# Altium footprint library 2020-03-27_15-51-18.PcbLib: 3 footprints
Each footprint in its own frame and in the unit in brackets; x right, y up, seen from the top. Pads: shape width x height; smd on the part's side, far side on the other; paste and mask are expansions set on the pad; w line width, h text height; cw(c..) or ccw(c..) is an arc to the next point about the centre after c.
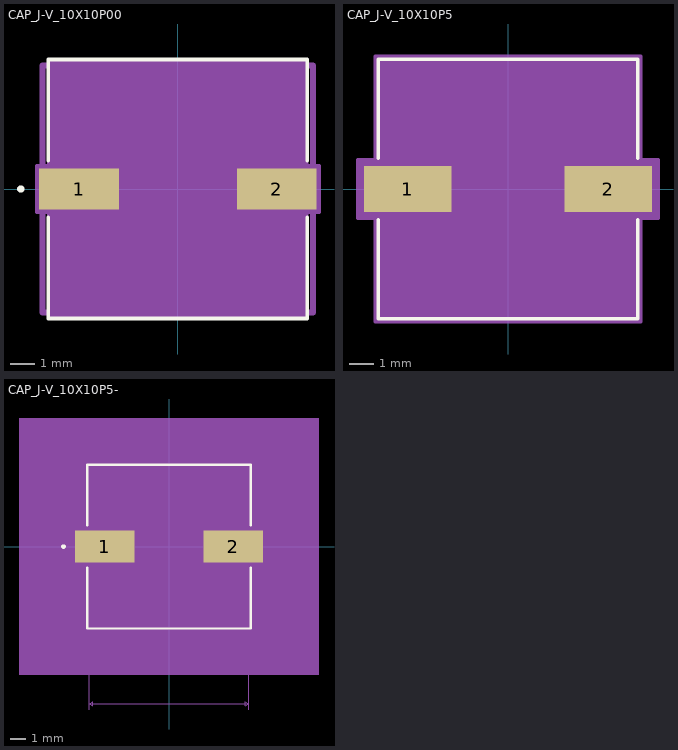
[diagram p0: the footprints below, top view; thin cyan lines are the x and y axes]

## CAP_J-V_10X10P00 [mil]
pads (2):
  rect 130x67 smd paste+0 mask+0: 1(-161.5,0) 2(161.5,0)
Top Overlay:
  circle w6: c-256.5,0 r3
  lines w6: -211.5,-46.6 -211.5,-211.5 211.5,-211.5 211.5,-46.6 ; -211.5,46.6 -211.5,211.5 211.5,211.5 211.5,46.6
Mechanical 1:
  lines w10: -221,-202 -221,202 221,202 221,201 221,-202 -221,-202
Mechanical 13:
  circle w0: c-186.5,0 r3
  lines w1: -206.5,-103.25 -103.25,-206.5 ; -206.5,103.25 -103.25,206.5 ; -206.5,-206.5 206.5,-206.5 206.5,206.5 -206.5,206.5 -206.5,-206.5
Mechanical 15:
  region: -210.5,-37.5 -230.5,-37.5 -230.5,37.5 -210.5,37.5 -210.5,210.5 210.5,210.5 210.5,37.5 230.5,37.5 230.5,-37.5 210.5,-37.5 210.5,-210.5 -210.5,-210.5
  lines w6: -230.5,-37.5 -230.5,37.5 -210.5,37.5 -210.5,210.5 210.5,210.5 210.5,37.5 230.5,37.5 230.5,-37.5 210.5,-37.5 210.5,-210.5 -210.5,-210.5 -210.5,-37.5 -230.5,-37.5
3D body "User Library-10x10_5.SLDPRT": height 425.2, standoff 0, extent -222.44,-202.75 222.44,202.76
3D body: height 10, standoff 0, extent 0,0 10,10

## CAP_J-V_10X10P5 [mil]
pads (2):
  rect 142x75 smd paste+0 mask+0: 1(-163.5,0) 2(163.5,0)
Top Overlay:
  lines w6: -211.5,-50.6 -211.5,-211.5 211.5,-211.5 211.5,-50.6 ; -211.5,50.6 -211.5,211.5 211.5,211.5 211.5,50.6
Mechanical 13:
  lines w1: -206.5,-103.25 -103.25,-206.5 ; -206.5,103.25 -103.25,206.5 ; -206.5,-206.5 -206.5,206.5 206.5,206.5 206.5,-206.5 -206.5,-206.5
Mechanical 15:
  region: -216.5,-47.5 -244.5,-47.5 -244.5,47.5 -216.5,47.5 -216.5,216.5 216.5,216.5 216.5,47.5 244.5,47.5 244.5,-47.5 216.5,-47.5 216.5,-216.5 -216.5,-216.5
  lines w6: -244.5,-47.5 -216.5,-47.5 -216.5,-216.5 216.5,-216.5 216.5,-47.5 244.5,-47.5 244.5,47.5 216.5,47.5 216.5,216.5 -216.5,216.5 -216.5,47.5 -244.5,47.5 -244.5,-47.5
3D body: height 10, standoff 0, extent 0,0 10,10
3D body "User Library-10x10_5.SLDPRT": height 425.2, standoff 0, extent -202.75,-222.44 202.76,222.45

## CAP_J-V_10X10P5- [mil]
pads (2):
  rect 154x83 smd paste+0 mask+0: 1(-165.5,0) 2(165.5,0)
Top Overlay:
  circle w6: c-272.5,0 r3
  lines w6: -211.5,-54.6 -211.5,-211.5 211.5,-211.5 211.5,-54.6 ; -211.5,54.6 -211.5,211.5 211.5,211.5 211.5,54.6
Mechanical 5:
  region: 387.5,-331.5 -387.5,-331.5 -387.5,331.5 387.5,331.5
Mechanical 7:
  lines w1: -321.5,-206.5 -206.5,-206.5 -206.5,-421.5 ; -321.5,206.5 -206.5,206.5 ; -264.5,-306.5 -214.5,-306.5 ; -214.5,-321.5 -214.5,-51.5 ; -214.5,51.5 -214.5,321.5 ; -88.5,-321.5 -88.5,-31.5 ; -38.5,-306.5 -88.5,-306.5 ; 206.5,-421.5 206.5,-206.5 ; 214.5,51.5 214.5,321.5 ; 252.5,-21.5 357.5,-21.5 ; 252.5,21.5 357.5,21.5 ; 342.5,-71.5 342.5,-21.5 ; 342.5,71.5 342.5,21.5 ; -306.5,-206.5 -306.5,206.5 ; -306.5,-206.5 -311.5,-196.5 -301.5,-196.5 -306.5,-206.5 ; -306.5,206.5 -311.5,196.5 -301.5,196.5 -306.5,206.5 ; -214.5,-306.5 -224.5,-301.5 -224.5,-311.5 -214.5,-306.5 ; -214.5,306.5 214.5,306.5 ; -214.5,306.5 -204.5,311.5 -204.5,301.5 -214.5,306.5 ; -206.5,-406.5 206.5,-406.5 ; -206.5,-406.5 -196.5,-401.5 -196.5,-411.5 -206.5,-406.5 ; -88.5,-306.5 -78.5,-301.5 -78.5,-311.5 -88.5,-306.5 ; 206.5,-406.5 196.5,-401.5 196.5,-411.5 206.5,-406.5 ; 214.5,306.5 204.5,311.5 204.5,301.5 214.5,306.5 ; 342.5,-21.5 337.5,-31.5 347.5,-31.5 342.5,-21.5 ; 342.5,21.5 337.5,31.5 347.5,31.5 342.5,21.5
  text "Default Padstyle: RX154Y83D0T" at -362.5,-433.5 h50
  text "Alternate 1 Padstyle: OX60Y90D30P" at -412.5,-533.5 h50
  text "Alternate 2 Padstyle: OX90Y60D30P" at -412.5,-633.5 h50
  text "0.043in/1.092mm" at 362.5,-12.5 h25
  text "0.429in/10.897mm" at -100,326.5 h25
  text "0.413in/10.49mm" at -514,-12.5 h25
  text "0.126in/3.2mm" at -232.75,-351.5 h25
  text "0.413in/10.49mm" at -93.75,-451.5 h25
Mechanical 13:
  circle w0: c-186.5,0 r3
  lines w1: -206.5,-103.25 -103.25,-206.5 ; -206.5,103.25 -103.25,206.5 ; -206.5,-206.5 206.5,-206.5 206.5,206.5 -206.5,206.5 -206.5,-206.5
Mechanical 15:
  region: -226.5,-61.5 -262.5,-61.5 -262.5,61.5 -226.5,61.5 -226.5,226.5 226.5,226.5 226.5,61.5 262.5,61.5 262.5,-61.5 226.5,-61.5 226.5,-226.5 -226.5,-226.5
  lines w6: -262.5,-61.5 -262.5,61.5 -226.5,61.5 -226.5,226.5 226.5,226.5 226.5,61.5 262.5,61.5 262.5,-61.5 226.5,-61.5 226.5,-226.5 -226.5,-226.5 -226.5,-61.5 -262.5,-61.5
3D body: height 10, standoff 0, extent 0,0 10,10